# Altium footprint library work.PcbLib: 15 footprints
Each footprint in its own frame and in the unit in brackets; x right, y up, seen from the top. Pads: shape width x height; smd on the part's side, far side on the other; paste and mask are expansions set on the pad; w line width, h text height; cw(c..) or ccw(c..) is an arc to the next point about the centre after c.
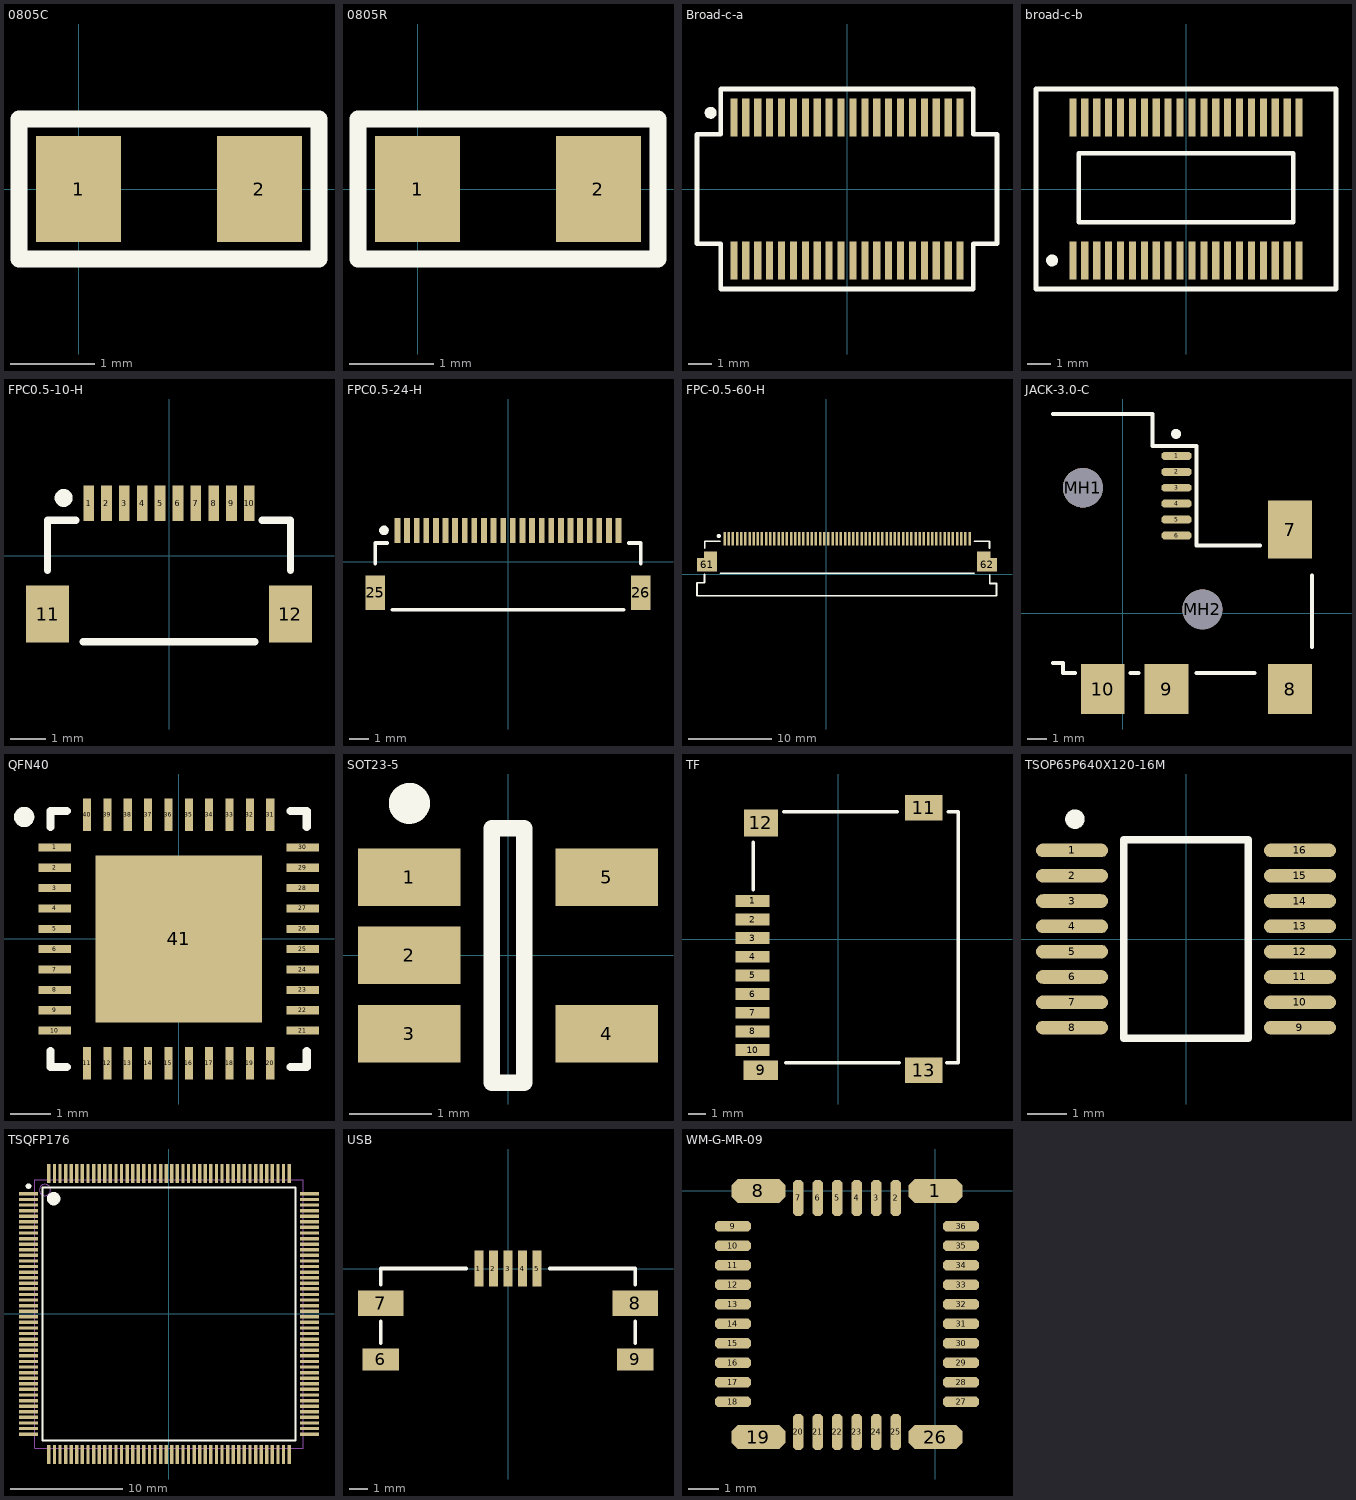
[diagram p0: the footprints below, top view; thin cyan lines are the x and y axes]

## 0805C [mil]
pads (2):
  rect 40x50 smd: 1(0,0) 2(85,0)
Top Overlay:
  lines w8: -28,-33 113,-33 113,33 -28,33 -28,-33
3D body: height 30.39, standoff -0.39, extent 3.15,-24.61 81.89,24.61

## 0805R [mil]
pads (2):
  rect 40x50 smd: 1(0,0) 2(85,0)
Top Overlay:
  lines w8: -28,-33 113,-33 113,33 -28,33 -28,-31
3D body: height 30.39, standoff -0.39, extent 3.26,-24.61 82,24.61

## Broad-c-a [mm]
pads (40):
  rect 0.3x1.6 smd: 1(-4.75,3) 2(-4.75,-3) 3(-4.25,3) 4(-4.25,-3) 5(-3.75,3) 6(-3.75,-3) 7(-3.25,3) 8(-3.25,-3) 9(-2.75,3) 10(-2.75,-3) 11(-2.25,3) 12(-2.25,-3) 13(-1.75,3) 14(-1.75,-3) 15(-1.25,3) 16(-1.25,-3) 17(-0.75,3) 18(-0.75,-3) 19(-0.25,3) 20(-0.25,-3) 21(0.25,3) 22(0.25,-3) 23(0.75,3) 24(0.75,-3) 25(1.25,3) 26(1.25,-3) 27(1.75,3) 28(1.75,-3) 29(2.25,3) 30(2.25,-3) 31(2.75,3) 32(2.75,-3) 33(3.25,3) 34(3.25,-3) 35(3.75,3) 36(3.75,-3) 37(4.25,3) 38(4.25,-3) 39(4.75,3) 40(4.75,-3)
Top Overlay:
  circle w0.25: c-5.725,3.2 r0.125
  lines w0.2: -6.3,-2.3 -5.3,-2.3 -5.3,-4 -5.3,-4.2 5.3,-4.2 5.3,-2.3 6.3,-2.3 6.3,0 6.3,2.2 6.3,2.3 5.3,2.3 5.3,4.1 5.3,4.2 -5.2,4.2 -5.3,4.2 -5.3,2.3 -6.2,2.3 -6.3,2.3 -6.3,0 -6.3,-2.3

## broad-c-b [mm]
pads (40):
  rect 0.3x1.6 smd: 1(-4.75,-3) 2(-4.75,3) 3(-4.25,-3) 4(-4.25,3) 5(-3.75,-3) 6(-3.75,3) 7(-3.25,-3) 8(-3.25,3) 9(-2.75,-3) 10(-2.75,3) 11(-2.25,-3) 12(-2.25,3) 13(-1.75,-3) 14(-1.75,3) 15(-1.25,-3) 16(-1.25,3) 17(-0.75,-3) 18(-0.75,3) 19(-0.25,-3) 20(-0.25,3) 21(0.25,-3) 22(0.25,3) 23(0.75,-3) 24(0.75,3) 25(1.25,-3) 26(1.25,3) 27(1.75,-3) 28(1.75,3) 29(2.25,-3) 30(2.25,3) 31(2.75,-3) 32(2.75,3) 33(3.25,-3) 34(3.25,3) 35(3.75,-3) 36(3.75,3) 37(4.25,-3) 38(4.25,3) 39(4.75,-3) 40(4.75,3)
Top Overlay:
  circle w0.25: c-5.625,-3 r0.125
  lines w0.2: -5.3,4.2 -5.2,4.2 ; -6.3,-4.2 6.3,-4.2 6.3,4.2 -6.3,4.2 -6.3,-4.2 ; -4.5,-1.4 -4.5,1.5 4.5,1.5 4.5,-1.4 -4.5,-1.4

## FPC0.5-10-H [mm]
pads (12):
  rect 0.3x1 smd: 1(-2.25,1.475) 2(-1.75,1.475) 3(-1.25,1.475) 4(-0.75,1.475) 5(-0.25,1.475) 6(0.25,1.475) 7(0.75,1.475) 8(1.25,1.475) 9(1.75,1.475) 10(2.25,1.475)
  rect 1.2x1.6 smd: 11(-3.4,-1.625) 12(3.4,-1.625)
Top Overlay:
  circle w0.25: c-2.95,1.625 r0.125
  lines w0.2: -3.4,-0.4 -3.4,1 -2.6,1 ; -2.4,-2.4 2.4,-2.4 ; 2.6,1 3.4,1 3.4,-0.4

## FPC0.5-24-H [mm]
pads (26):
  rect 0.3x1.3 smd: 1(-5.75,1.625) 2(-5.25,1.625) 3(-4.75,1.625) 4(-4.25,1.625) 5(-3.75,1.625) 6(-3.25,1.625) 7(-2.75,1.625) 8(-2.25,1.625) 9(-1.75,1.625) 10(-1.25,1.625) 11(-0.75,1.625) 12(-0.25,1.625) 13(0.25,1.625) 14(0.75,1.625) 15(1.25,1.625) 16(1.75,1.625) 17(2.25,1.625) 18(2.75,1.625) 19(3.25,1.625) 20(3.75,1.625) 21(4.25,1.625) 22(4.75,1.625) 23(5.25,1.625) 24(5.75,1.625)
  rect 1x1.8 smd: 25(-6.9,-1.625) 26(6.9,-1.625)
Top Overlay:
  circle w0.25: c-6.45,1.625 r0.125
  lines w0.2: -6.9,-0.1 -6.9,0.975 -6.3,0.975 ; -6,-2.5 6,-2.5 ; 6.3,0.975 6.9,0.975 6.9,-0.1

## FPC-0.5-60-H [mm]
pads (64):
  rect 0.3x1.6 smd: 1(-12.25,4.25) 2(-11.75,4.25) 3(-11.25,4.25) 4(-10.75,4.25) 5(-10.25,4.25) 6(-9.75,4.25) 7(-9.25,4.25) 8(-8.75,4.25) 9(-8.25,4.25) 10(-7.75,4.25) 11(-7.25,4.25) 12(-6.75,4.25) 13(-6.25,4.25) 14(-5.75,4.25) 15(-5.25,4.25) 16(-4.75,4.25) 17(-4.25,4.25) 18(-3.75,4.25) 19(-3.25,4.25) 20(-2.75,4.25) 21(-2.25,4.25) 22(-1.75,4.25) 23(-1.25,4.25) 24(-0.75,4.25) 25(-0.25,4.25) 26(0.25,4.25) 27(0.75,4.25) 28(1.25,4.25) 29(1.75,4.25) 30(2.25,4.25) 31(2.75,4.25) 32(3.25,4.25) 33(3.75,4.25) 34(4.25,4.25) 35(4.75,4.25) 36(5.25,4.25) 37(5.75,4.25) 38(6.25,4.25) 39(6.75,4.25) 40(7.25,4.25) 41(7.75,4.25) 42(8.25,4.25) 43(8.75,4.25) 44(9.25,4.25) 45(9.75,4.25) 46(10.25,4.25) 47(10.75,4.25) 48(11.25,4.25) 49(11.75,4.25) 50(12.25,4.25) 51(12.75,4.25) 52(13.25,4.25) 53(13.75,4.25) 54(14.25,4.25) 55(14.75,4.25) 56(15.25,4.25) 57(15.75,4.25) 58(16.25,4.25) 59(16.75,4.25) 60(17.25,4.25)
  rect 2.4x1.6 smd: 61(-14.35,1.15) 62(19.354,1.15)
  rect 1.6x0.8 smd: 61(-13.95,2.35) 62(18.954,2.35)
Top Overlay:
  circle w0.25: c-12.95,4.6 r0.125
  lines w0.2: -14.675,0 -14.675,-1.05 -15.575,-1.05 -15.575,-2.6 -15.566,-2.591 -15.189,-2.591 -15.18,-2.6 19.6,-2.6 20.5,-2.6 20.5,-1.125 19.675,-1.125 19.675,-1.1 19.675,-0.075 ; -14.65,3.15 -14.65,3.95 -12.8,3.95 ; -12.75,0.125 17.825,0.125 ; 17.804,3.95 19.654,3.95 19.654,3.15

## JACK-3.0-C [mm]
pads (12):
  oct 1.5x0.4 smd: 1(2.7,7.9) 2(2.7,7.1) 3(2.7,6.3) 4(2.7,5.5) 5(2.7,4.7) 6(2.7,3.9)
  rect 2.2x2.9 smd: 7(8.4,4.2)
  rect 2.2x2.5 smd: 8(8.4,-3.8) 9(2.2,-3.8) 10(-1,-3.8)
  round 2 hole 2 unplated: MH1(-2,6.3) MH2(4,0.2)
Top Overlay:
  circle w0.25: c2.675,9 r0.125
  lines w0.2: -3.5,-2.5 -3,-2.5 -3,-3 -2.4,-3 ; -3.5,10 1.5,10 1.5,8.4 3.7,8.4 3.7,3.4 6.9,3.4 ; 0.4,-3 0.8,-3 ; 3.7,-3 6.6,-3 ; 9.5,-1.7 9.5,1.9

## QFN40 [mm] "QFN, 40-Leads, Body 6.00x6.00mm, Pitch 0.50mm, Thermal Pad 4.10x4.10mm, IPC Low Density"
height 1
pads (41):
  rect 0.8x0.2 smd: 1(-3.05,2.25) 2(-3.05,1.75) 3(-3.05,1.25) 4(-3.05,0.75) 5(-3.05,0.25) 6(-3.05,-0.25) 7(-3.05,-0.75) 8(-3.05,-1.25) 9(-3.05,-1.75) 10(-3.05,-2.25) 21(3.05,-2.25) 22(3.05,-1.75) 23(3.05,-1.25) 24(3.05,-0.75) 25(3.05,-0.25) 26(3.05,0.25) 27(3.05,0.75) 28(3.05,1.25) 29(3.05,1.75) 30(3.05,2.25)
  rect 0.2x0.8 smd: 11(-2.25,-3.05) 12(-1.75,-3.05) 13(-1.25,-3.05) 14(-0.75,-3.05) 15(-0.25,-3.05) 16(0.25,-3.05) 17(0.75,-3.05) 18(1.25,-3.05) 19(1.75,-3.05) 20(2.25,-3.05) 31(2.25,3.05) 32(1.75,3.05) 33(1.25,3.05) 34(0.75,3.05) 35(0.25,3.05) 36(-0.25,3.05) 37(-0.75,3.05) 38(-1.25,3.05) 39(-1.75,3.05) 40(-2.25,3.05)
  rect 4.1x4.1 smd: 41(0,0)
Top Overlay:
  circle w0.25: c-3.8,3 r0.125
  lines w0.2: -3.15,-2.75 -3.15,-3.15 -2.75,-3.15 ; -3.15,2.75 -3.15,3.15 -2.75,3.15 ; 2.75,-3.15 3.15,-3.15 3.15,-2.75 ; 2.75,3.15 3.15,3.15 3.15,2.75

## SOT23-5 [mm] "SOT23, 5-Leads, Body 2.90x2.80mm, Pitch 0.95mm, IPC Low Density"
height 1.45
pads (5):
  rect 1.25x0.7 smd: 1(-1.2,0.95) 2(-1.2,0) 3(-1.2,-0.95) 4(1.2,-0.95) 5(1.2,0.95)
Top Overlay:
  circle w0.25: c-1.2,1.85 r0.125
  lines w0.2: -0.2,-1.55 0.2,-1.55 0.2,1.55 -0.2,1.55 -0.2,-1.55
3D body: height 1.3, standoff 0, extent -1.5,-1.5 1.5,1.5

## TF [mm]
pads (13):
  rect 2x0.7 smd: 1(-5.05,2.25) 2(-5.05,1.15) 3(-5.05,0.05) 4(-5.05,-1.05) 5(-5.05,-2.15) 6(-5.05,-3.25) 7(-5.05,-4.35) 8(-5.05,-5.45) 10(-5.05,-6.55)
  rect 2.035x1.149 smd: 9(-4.55,-7.75)
  rect 2.2x1.5 smd: 11(5.05,7.75) 13(5.05,-7.75)
  rect 2x1.6 smd: 12(-4.55,6.85)
Top Overlay:
  lines w0.2: -5,2.9 -5,5.7 ; -3.2,7.5 3.5,7.5 ; -3.1,-7.3 3.6,-7.3 ; 6.4,-7.3 7,-7.3 ; 6.5,7.5 7.1,7.5 7.1,-7.3
3D body: height 1.95, standoff -0.52, extent -5.714,-8.071 9.496,8.236

## TSOP65P640X120-16M [mm] "TSOP, 16-Leads, Body 5.00x4.40mm, Pitch 0.65mm, IPC Low Density"
height 1.2
pads (16):
  oval 1.85x0.35 smd: 1(-2.925,2.275) 2(-2.925,1.625) 3(-2.925,0.975) 4(-2.925,0.325) 5(-2.925,-0.325) 6(-2.925,-0.975) 7(-2.925,-1.625) 8(-2.925,-2.275) 9(2.925,-2.275) 10(2.925,-1.625) 11(2.925,-0.975) 12(2.925,-0.325) 13(2.925,0.325) 14(2.925,0.975) 15(2.925,1.625) 16(2.925,2.275)
Top Overlay:
  circle w0.25: c-2.85,3.075 r0.125
  lines w0.2: -1.6,-2.55 -1.6,2.55 1.6,2.55 1.6,-2.55 -1.6,-2.55

## TSQFP176 [mm] "TSQFP, 176-Leads, Body 24.00x24.00mm, Pitch 0.50mm, IPC Medium Density"
height 1.6
pads (176):
  rect 1.7x0.3 smd: 1(-12.575,10.75) 2(-12.575,10.25) 3(-12.575,9.75) 4(-12.575,9.25) 5(-12.575,8.75) 6(-12.575,8.25) 7(-12.575,7.75) 8(-12.575,7.25) 9(-12.575,6.75) 10(-12.575,6.25) 11(-12.575,5.75) 12(-12.575,5.25) 13(-12.575,4.75) 14(-12.575,4.25) 15(-12.575,3.75) 16(-12.575,3.25) 17(-12.575,2.75) 18(-12.575,2.25) 19(-12.575,1.75) 20(-12.575,1.25) 21(-12.575,0.75) 22(-12.575,0.25) 23(-12.575,-0.25) 24(-12.575,-0.75) 25(-12.575,-1.25) 26(-12.575,-1.75) 27(-12.575,-2.25) 28(-12.575,-2.75) 29(-12.575,-3.25) 30(-12.575,-3.75) 31(-12.575,-4.25) 32(-12.575,-4.75) 33(-12.575,-5.25) 34(-12.575,-5.75) 35(-12.575,-6.25) 36(-12.575,-6.75) 37(-12.575,-7.25) 38(-12.575,-7.75) 39(-12.575,-8.25) 40(-12.575,-8.75) 41(-12.575,-9.25) 42(-12.575,-9.75) 43(-12.575,-10.25) 44(-12.575,-10.75) 89(12.575,-10.75) 90(12.575,-10.25) 91(12.575,-9.75) 92(12.575,-9.25) 93(12.575,-8.75) 94(12.575,-8.25) 95(12.575,-7.75) 96(12.575,-7.25) 97(12.575,-6.75) 98(12.575,-6.25) 99(12.575,-5.75) 100(12.575,-5.25) 101(12.575,-4.75) 102(12.575,-4.25) 103(12.575,-3.75) 104(12.575,-3.25) 105(12.575,-2.75) 106(12.575,-2.25) 107(12.575,-1.75) 108(12.575,-1.25) 109(12.575,-0.75) 110(12.575,-0.25) 111(12.575,0.25) 112(12.575,0.75) 113(12.575,1.25) 114(12.575,1.75) 115(12.575,2.25) 116(12.575,2.75) 117(12.575,3.25) 118(12.575,3.75) 119(12.575,4.25) 120(12.575,4.75) 121(12.575,5.25) 122(12.575,5.75) 123(12.575,6.25) 124(12.575,6.75) 125(12.575,7.25) 126(12.575,7.75) 127(12.575,8.25) 128(12.575,8.75) 129(12.575,9.25) 130(12.575,9.75) 131(12.575,10.25) 132(12.575,10.75)
  rect 0.3x1.7 smd: 45(-10.75,-12.575) 46(-10.25,-12.575) 47(-9.75,-12.575) 48(-9.25,-12.575) 49(-8.75,-12.575) 50(-8.25,-12.575) 51(-7.75,-12.575) 52(-7.25,-12.575) 53(-6.75,-12.575) 54(-6.25,-12.575) 55(-5.75,-12.575) 56(-5.25,-12.575) 57(-4.75,-12.575) 58(-4.25,-12.575) 59(-3.75,-12.575) 60(-3.25,-12.575) 61(-2.75,-12.575) 62(-2.25,-12.575) 63(-1.75,-12.575) 64(-1.25,-12.575) 65(-0.75,-12.575) 66(-0.25,-12.575) 67(0.25,-12.575) 68(0.75,-12.575) 69(1.25,-12.575) 70(1.75,-12.575) 71(2.25,-12.575) 72(2.75,-12.575) 73(3.25,-12.575) 74(3.75,-12.575) 75(4.25,-12.575) 76(4.75,-12.575) 77(5.25,-12.575) 78(5.75,-12.575) 79(6.25,-12.575) 80(6.75,-12.575) 81(7.25,-12.575) 82(7.75,-12.575) 83(8.25,-12.575) 84(8.75,-12.575) 85(9.25,-12.575) 86(9.75,-12.575) 87(10.25,-12.575) 88(10.75,-12.575) 133(10.75,12.575) 134(10.25,12.575) 135(9.75,12.575) 136(9.25,12.575) 137(8.75,12.575) 138(8.25,12.575) 139(7.75,12.575) 140(7.25,12.575) 141(6.75,12.575) 142(6.25,12.575) 143(5.75,12.575) 144(5.25,12.575) 145(4.75,12.575) 146(4.25,12.575) 147(3.75,12.575) 148(3.25,12.575) 149(2.75,12.575) 150(2.25,12.575) 151(1.75,12.575) 152(1.25,12.575) 153(0.75,12.575) 154(0.25,12.575) 155(-0.25,12.575) 156(-0.75,12.575) 157(-1.25,12.575) 158(-1.75,12.575) 159(-2.25,12.575) 160(-2.75,12.575) 161(-3.25,12.575) 162(-3.75,12.575) 163(-4.25,12.575) 164(-4.75,12.575) 165(-5.25,12.575) 166(-5.75,12.575) 167(-6.25,12.575) 168(-6.75,12.575) 169(-7.25,12.575) 170(-7.75,12.575) 171(-8.25,12.575) 172(-8.75,12.575) 173(-9.25,12.575) 174(-9.75,12.575) 175(-10.25,12.575) 176(-10.75,12.575)
Top Overlay:
  circle w0.25: c-12.575,11.45 r0.125
  circle w0.6: c-10.325,10.325 r0.3
  lines w0.2: -11.325,-11.325 -11.325,11.325 11.325,11.325 11.325,-11.325 -11.325,-11.325
Mechanical 13:
  circle w0.1: c-11.1,11.1 r0.5
  lines w0.1: -12,-12 -12,12 12,12 12,-12 -12,-12
3D body: height 1.57, standoff -0.01, extent -12.872,-12.886 12.9,12.886

## USB [mm]
pads (9):
  rect 0.5x2 smd: 1(-1.6,0) 2(-0.8,0) 3(0,0) 4(0.8,0) 5(1.6,0)
  rect 2x1.2 smd: 6(-7,-5) 9(7,-5)
  rect 2.5x1.4 smd: 7(-7,-1.9) 8(7,-1.9)
Top Overlay:
  lines w0.2: -7,-4.1 -7,-2.9 ; -7,-0.9 -7,0 -2.3,0 ; 2.3,0 7,0 7,-0.9 ; 7,-4.1 7,-2.9

## WM-G-MR-09 [mm]
pads (36):
  oct 1.8x0.8 smd: 1(0,0) 8(-5.9,0) 19(-5.9,-8.2) 26(0,-8.2)
  oct 0.35x1.2 smd: 2(-1.325,-0.225) 3(-1.975,-0.225) 4(-2.625,-0.225) 5(-3.275,-0.225) 6(-3.925,-0.225) 7(-4.575,-0.225) 20(-4.575,-8.025) 21(-3.925,-8.025) 22(-3.275,-8.025) 23(-2.625,-8.025) 24(-1.975,-8.025) 25(-1.325,-8.025)
  oct 1.2x0.35 smd: 9(-6.75,-1.175) 10(-6.75,-1.825) 11(-6.75,-2.475) 12(-6.75,-3.125) 13(-6.75,-3.775) 14(-6.75,-4.425) 15(-6.75,-5.075) 16(-6.75,-5.725) 17(-6.75,-6.375) 18(-6.75,-7.025) 27(0.85,-7.025) 28(0.85,-6.375) 29(0.85,-5.725) 30(0.85,-5.075) 31(0.85,-4.425) 32(0.85,-3.775) 33(0.85,-3.125) 34(0.85,-2.475) 35(0.85,-1.825) 36(0.85,-1.175)